# Altium footprint library TransFet.PcbLib: 4 footprints
Each footprint in its own frame and in the unit in brackets; x right, y up, seen from the top. Pads: shape width x height; smd on the part's side, far side on the other; paste and mask are expansions set on the pad; w line width, h text height; cw(c..) or ccw(c..) is an arc to the next point about the centre after c.
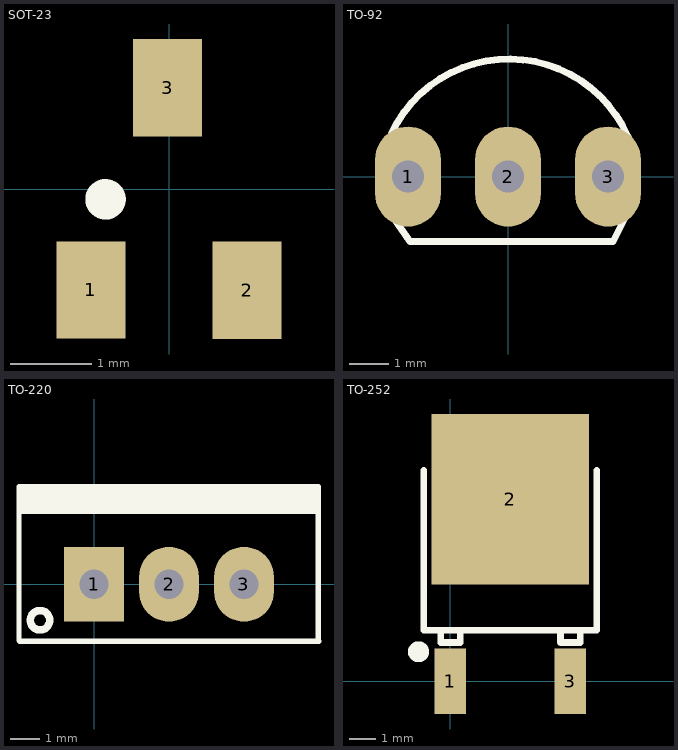
[diagram p0: the footprints below, top view; thin cyan lines are the x and y axes]

## SOT-23 [mm]
pads (3):
  rect 0.85x1.2 smd: 1(-0.963,-1.245) 2(0.963,-1.25) 3(-0.018,1.25)
Top Overlay:
  circle w0.25: c-0.783,-0.127 r0.125
3D body "SW3DPS-SOT-23-DEFAULT.STEP": height 1.06, standoff -0.04, extent -1.497,-1.326 1.503,1.174

## TO-92 [mil]
pads (3):
  oval 66x100 hole 32: 1(-100,0) 2(0,0) 3(100,0)
Top Overlay:
  lines w7: -116.52,43.21 cw(c0.97,-12.43) 119.94,39.97 ; -115.34,-40.24 -98,-65 105,-65 118,-39
3D body "SW3dPS-TO92.STEP": height 245.04, standoff -199.79, extent -108.87,-65.56 108.86,95

## TO-220 [mil]
pads (3):
  rect 80x100 hole 39: 1(0,0)
  oval 80x100 hole 39: 2(100,0) 3(200,0)
Top Overlay:
  circle w10: c-72.03,-48 r12.97
  rectangle: -99,94 300,130
  lines w7: 298,107 299,93 ; -100,-75 -100,130 299,130 299,-75 300,-76 -76,-76 -99,-76 -100,-75
3D body "User Library-TO-220-1.STEP": height 322.83, standoff -810.24, extent -94.88,-80 294.88,97.17

## TO-252 [mm]
pads (3):
  rect 1.2x2.5 smd: 1(0,0) 3(4.572,0)
  rect 6x6.5 smd: 2(2.286,6.95)
Top Overlay:
  circle w0.4: c-1.214,1.125 r0.2
  lines w0.254: -1.014,8.05 -1.014,3.619 -1.014,1.95 5.586,1.95 5.586,3.619 5.586,8.05 ; -0.364,1.95 -0.364,1.481 0.386,1.481 0.386,1.95 ; 4.208,1.95 4.208,1.481 4.958,1.481 4.958,1.95
3D body "TO-252.step": height 2.32, standoff 0.02, extent -1.141,-0.998 5.439,8.702